# EAGLE library part DECADE-W5500 (library DECADE-libraries)
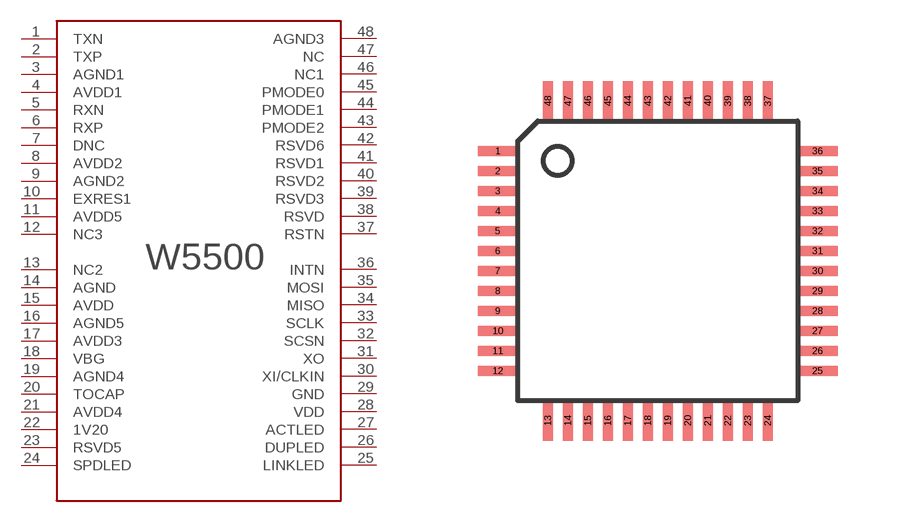
[diagram p27: symbol with the pads of DECADE-WIZNET-W5500; footprint DECADE-WIZNET-W5500]

Designator prefix -

## DECADE-W5500  [DECADE-WIZNET-W5500]
1  TXN
2  TXP
3  AGND1
4  AVDD1
5  RXN
6  RXP
7  DNC
8  AVDD2
9  AGND2
10  EXRES1
11  AVDD5
12  NC3
13  NC2
14  AGND
15  AVDD
16  AGND5
17  AVDD3
18  VBG
19  AGND4
20  TOCAP
21  AVDD4
22  1V20
23  RSVD5
24  SPDLED
25  LINKLED
26  DUPLED
27  ACTLED
28  VDD
29  GND
30  XI/CLKIN
31  XO
32  SCSN
33  SCLK
34  MISO
35  MOSI
36  INTN
37  RSTN
38  RSVD
39  RSVD3
40  RSVD2
41  RSVD1
42  RSVD6
43  PMODE2
44  PMODE1
45  PMODE0
46  NC1
47  NC
48  AGND3

## Footprint DECADE-WIZNET-W5500 (pad centres in mm)
smd 1 x 0.25: 1 -4,3; 2 -4,2.5; 3 -4,2; 4 -4,1.5; 5 -4,1; 6 -4,0.5; 7 -4,0; 8 -4,-0.5; 9 -4,-1; 10 -4,-1.5; 11 -4,-2; 12 -4,-2.5; 25 4,-2.5; 26 4,-2; 27 4,-1.5; 28 4,-1; 29 4,-0.5; 30 4,0; 31 4,0.5; 32 4,1; 33 4,1.5; 34 4,2; 35 4,2.5; 36 4,3
smd 0.25 x 1: 13 -2.75,-3.75; 14 -2.25,-3.75; 15 -1.75,-3.75; 16 -1.25,-3.75; 17 -0.75,-3.75; 18 -0.25,-3.75; 19 0.25,-3.75; 20 0.75,-3.75; 21 1.25,-3.75; 22 1.75,-3.75; 23 2.25,-3.75; 24 2.75,-3.75; 37 2.75,4.25; 38 2.25,4.25; 39 1.75,4.25; 40 1.25,4.25; 41 0.75,4.25; 42 0.25,4.25; 43 -0.25,4.25; 44 -0.75,4.25; 45 -1.25,4.25; 46 -1.75,4.25; 47 -2.25,4.25; 48 -2.75,4.25